# EAGLE library part DAC081S101CIMKX/NOPB (library NIPCB)
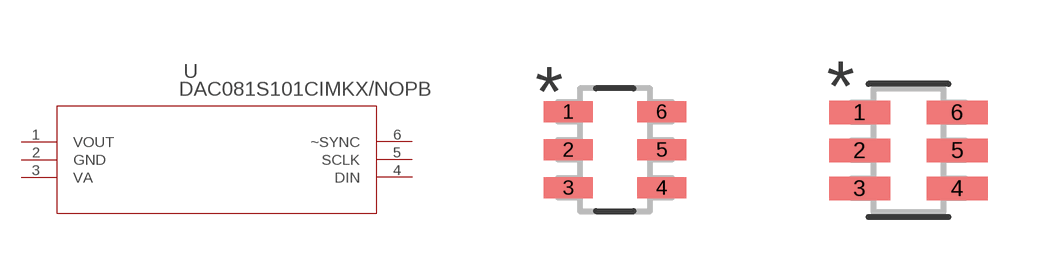
[diagram p12: symbol with the pads of MK06A; footprints MK06A, MK06A-M]

Designator prefix U

## DAC081S101CIMKX/NOPBMK06A (COPYRIGHT: Copyright (C) 2024 Ultra Librarian. All rights reserved.; MANUFACTURER_PART_NUMBER: DAC081S101CIMKX/NOPB; MFR_NAME: Texas Instruments)  [MK06A]
1  VOUT  out
2  GND  pwr
3  VA  pwr
4  DIN  in
5  SCLK  in
6  ~SYNC  in

## DAC081S101CIMKX/NOPBMK06A-M (COPYRIGHT: Copyright (C) 2024 Ultra Librarian. All rights reserved.; MANUFACTURER_PART_NUMBER: DAC081S101CIMKX/NOPB; MFR_NAME: Texas Instruments)  [MK06A-M]
Pads as for MK06A

## DAC081S101CIMKX/NOPBMK06A-L (COPYRIGHT: Copyright (C) 2024 Ultra Librarian. All rights reserved.; MANUFACTURER_PART_NUMBER: DAC081S101CIMKX/NOPB; MFR_NAME: Texas Instruments)  [MK06A-L]
Pads as for MK06A

## Footprint MK06A (pad centres in mm)
smd 1.219 x 0.533: 1 -1.168,0.95; 2 -1.168,0; 3 -1.168,-0.95; 4 1.168,-0.95; 5 1.168,0; 6 1.168,0.95

## Footprint MK06A-M (pad centres in mm)
smd 1.524 x 0.584: 1 -1.219,0.95; 2 -1.219,0; 3 -1.219,-0.95; 4 1.219,-0.95; 5 1.219,0; 6 1.219,0.95

## Footprint MK06A-L (pad centres in mm)
smd 0.914 x 0.483: 1 -1.118,0.95; 2 -1.118,0; 3 -1.118,-0.95; 4 1.118,-0.95; 5 1.118,0; 6 1.118,0.95